# Altium integrated library USB1061-XX-X-X_REVA.IntLib: 1 symbol
Pins are listed as number, name and electrical type; pins without a type are passive.

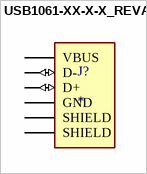
[diagram p0: symbol USB1061-XX-X-X_REVA]

## USB1061-XX-X-X_REVA
designator J?
USB-A (USB TYPE-A) USB 2.0 Plug Connector 4 Position Board Edge, Cutout; Surface Mount; Through Hole, Right Angle; MF: Global Connector Technology; MP: USB1061-GF-L-A; SnapEDA_Link: https://www.snapeda.com/parts/USB1061-GF-L-A/Global+Connector+Technology/view-part/?ref=snap; Package: None; Value: *; Check_prices: https://www.snapeda.com/parts/USB1061-GF-L-A/Global+Connector+Technology/view-part/?ref=eda
footprint GCT_USB1061-XX-X-X_REVA
pins: 1 VBUS (power), 2 D- (io), 3 D+ (io), 4 GND (power), 5 SHIELD (power), 6 SHIELD (power)